# EAGLE library part FLASH (library nRF9160-IC)
NOR FLASH
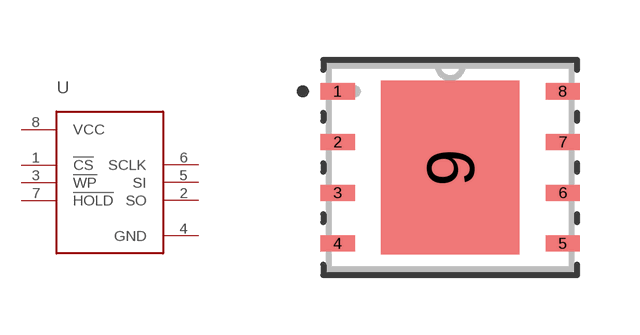
[diagram p7: symbol with the pads of WIN_ZP-8-L; footprint WIN_ZP-8-L]

Designator prefix U

## FLASH-W25Q128JVPIM-WSON (DESC: IC FLASH 128M SPI 133MHZ 8WSON; DIGIKEYPN: W25Q128JVPIMTR-ND; MPN: W25Q128JVPIM; PROD_ID: IC-15107), FLASH-W25Q16JVZPIQ-WSON (DESC: IC FLASH 16M SPI 133MHZ 8WSON; DIGIKEYPN: W25Q16JVZPIQ-ND; MPN: W25Q16JVZPIQ), FLASH-W25Q32JVZPIQ-WSON (DESC: IC FLASH 32M SPI 133MHZ 8WSON; DIGIKEYPN: W25Q32JVZPIQ-ND; MPN: W25Q32JVZPIQ; PROD_ID: IC-15681)  [WIN_ZP-8-L]
1  !CS
2  SO
3  !WP
4  GND
5  SI
6  SCLK
7  !HOLD
8  VCC

## Footprint WIN_ZP-8-L (pad centres in mm)
smd 0.86 x 0.403: 1 -2.818,1.905; 2 -2.818,0.635; 3 -2.818,-0.635; 4 -2.818,-1.905; 5 2.818,-1.905; 6 2.818,-0.635; 7 2.818,0.635; 8 2.818,1.905
smd 3.454 x 4.343: 9 0,0